# Altium schematic symbol library v-reg-micrel.SCHLIB: 4 symbols
Pins are listed as number, name and electrical type; pins without a type are passive.

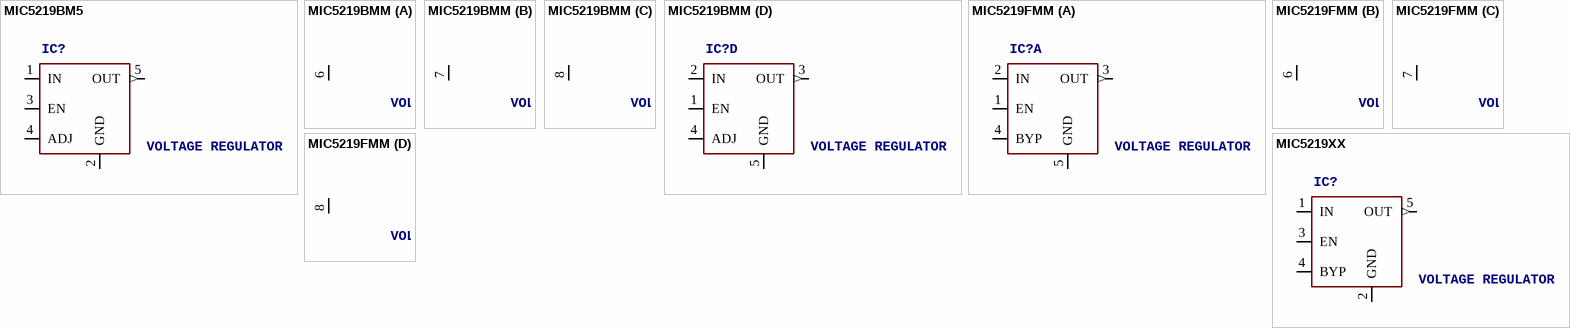
[diagram p0: symbols MIC5219BM5 to MIC5219XX]

## MIC5219BM5
designator IC?, comment VOLTAGE REGULATOR
MPN: MIC5219BM5 TR; MF: ALTERA CORPORATION; OC_FARNELL: 1100656; OC_NEWARK: 09J8939
footprint SOT23-5
pins: 1 IN, 2 GND (power), 3 EN, 4 ADJ, 5 OUT (out)

## MIC5219BMM
designator IC?, comment VOLTAGE REGULATOR
MPN: MIC5219BMM; MF: ALTERA CORPORATION; OC_FARNELL: unknown; OC_NEWARK: 76C0464
footprint MSOP08
part A pins: 6 GND (power)
part B pins: 7 GND (power)
part C pins: 8 GND (power)
part D pins: 1 EN, 2 IN, 3 OUT (out), 4 ADJ, 5 GND (power)

## MIC5219FMM
designator IC?, comment VOLTAGE REGULATOR
OC_FARNELL: unknown; OC_NEWARK: unknown
footprint MSOP08
part A pins: 1 EN, 2 IN, 3 OUT (out), 4 BYP, 5 GND (power)
part B pins: 6 GND (power)
part C pins: 7 GND (power)
part D pins: 8 GND (power)

## MIC5219XX
designator IC?, comment VOLTAGE REGULATOR
OC_FARNELL: unknown; OC_NEWARK: unknown
footprint SOT23-5
pins: 1 IN, 2 GND (power), 3 EN, 4 BYP, 5 OUT (out)